# Altium schematic symbol library USBC_Power_Supply.SCHLIB: 68 symbols (part 2 of 2)
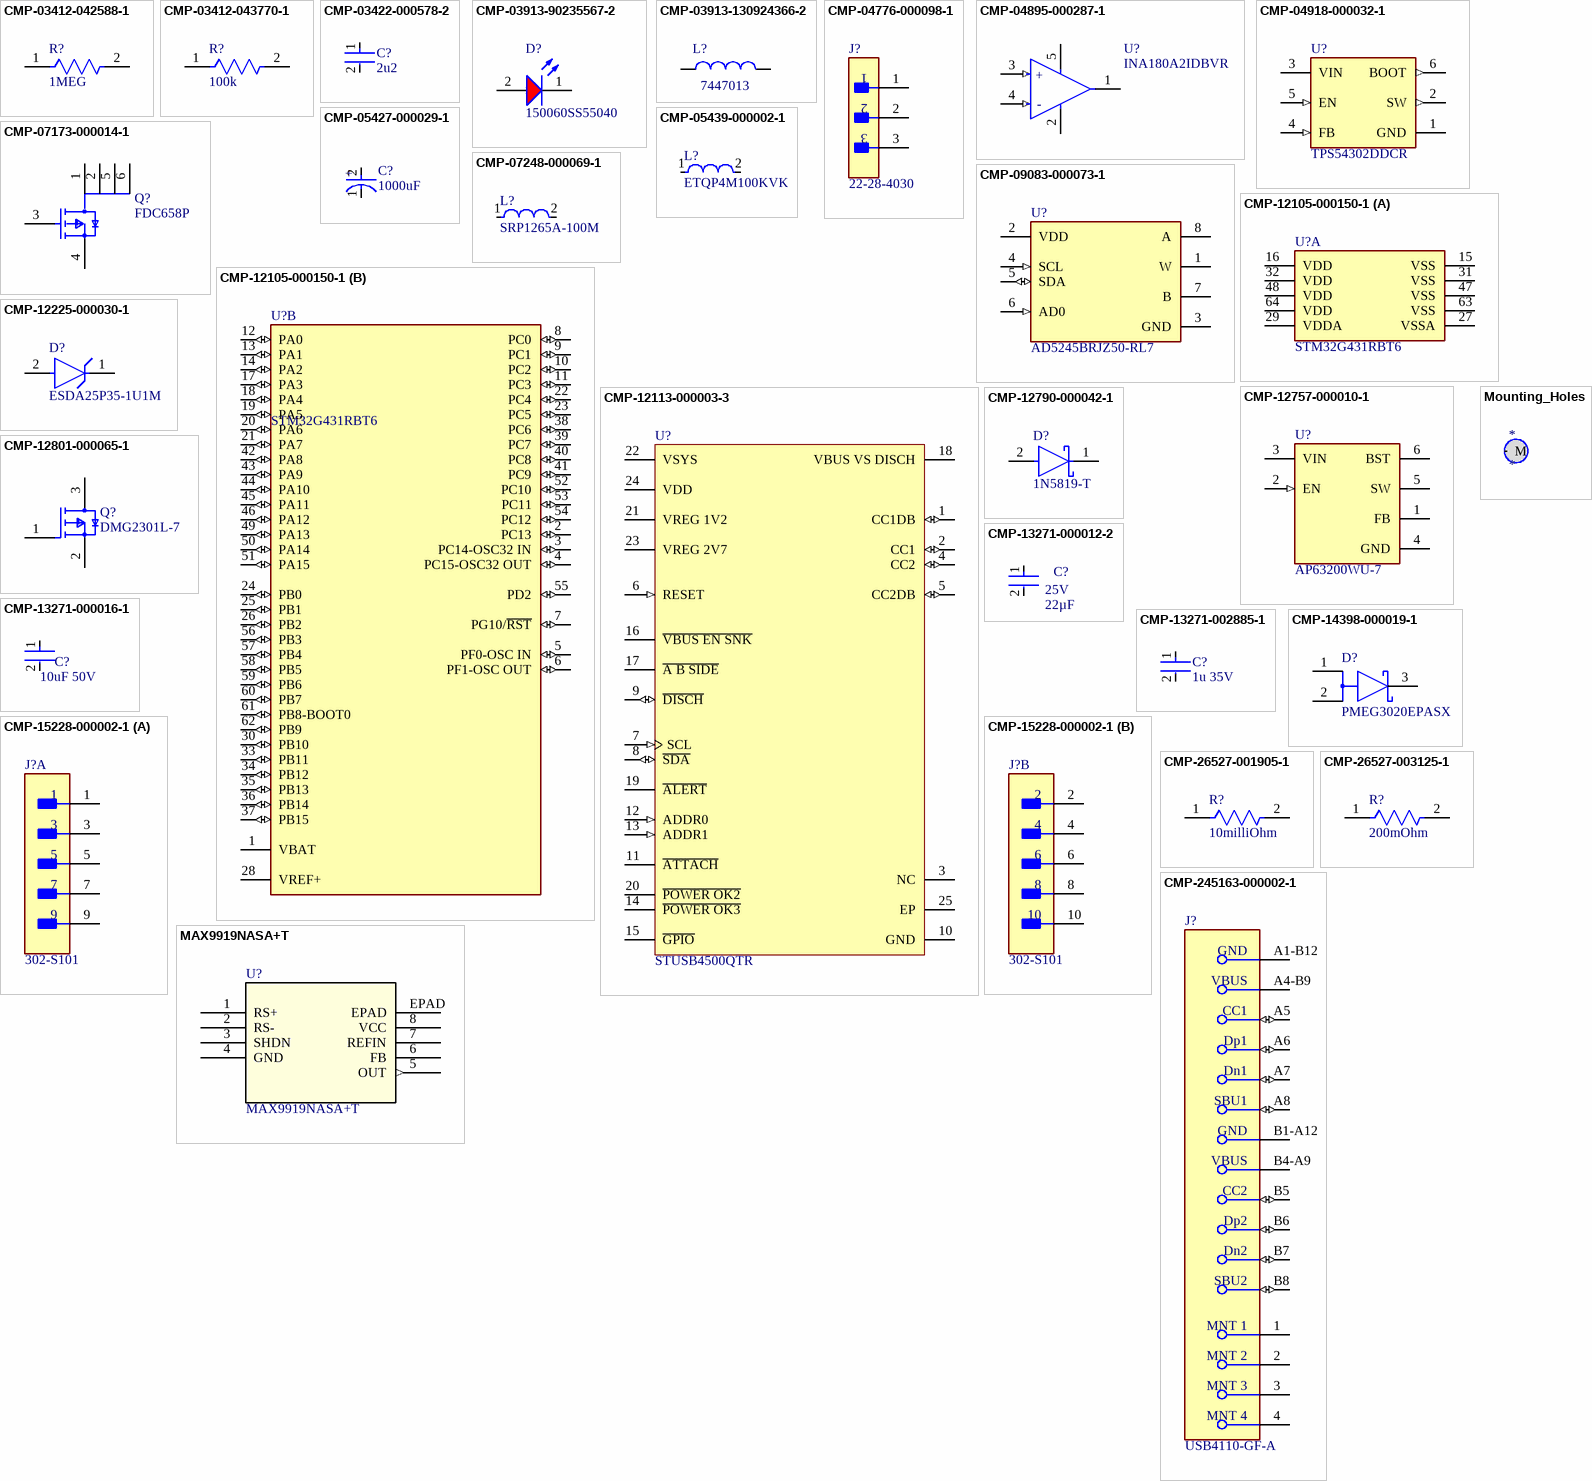
[diagram p2: symbols CMP-03412-042588-1 to Mounting_Holes]

## CMP-12790-000042-1
designator D?, comment 1N5819-T
DIODE SCHOTTKY 40V 1A DO41; Manufacturer: Diodes Inc.; Max Surge Forward Current: 25A; Capacitance: 110 pF; Max Junction Temp: +125°C; Peak Reverse Current: 1mA; Value: 110 pF; Temperature Range Low: -65°C; Footprint Url: https://www.diodes.com/assets/Package-Files/DO-41-Plastic.pdf; Digikey Description: DIODE SCHOTTKY 40V 1A DO41; Category: Diode; Mouser Description: Schottky Diodes & Rectifiers Vr/40V Io/1A T/R; Device Class L2: Diodes; Temperature Range High: +125°C; RoHS: TRUE; Device Class L3: Schottky Diodes; ComponentLink2Description: Datasheet; Temperature: -65°C to +125°C; Reverse Voltage: 40V; Height: 2.72mm; ComponentLink2URL: https://www.diodes.com/assets/Datasheets/ds23001.pdf; Forward Current: 1A; Manufacturer Part Number: 1N5819-T; Lead Free: Yes; Device Class L1: Discrete Semiconductors; Max Repetitive Reverse Voltage: 40V; Ipc Land Pattern Name: DIOPA1091W105L521D272; Automotive: No; Package: DO-41 (Plastic); Octopart: https://octopart.com/1n5819-t-diodes+inc.-55389586
footprint FP-DO-41_Plastic-MFG
pins: 1 C, 2 A

## CMP-12801-000065-1
designator Q?, comment DMG2301L-7
MOSFET P-CH 20V 3A SOT23; Manufacturer: Diodes Inc.; Number Of Channels: 1; Turn On Delay Time: 5ns; Drain To Source Resistance: 120mΩ; Max Junction Temp: +150°C; Gate To Source Voltage: 8V; Power Dissipation: 1.5W; Rthja Max: 83°C/W; Max Forward Diode Voltage: -1.2V; Standoff Height: 0.013mm; Threshold Vgs Min: -0.4V; Input Capacitace At Vds: 476pF @ -10V; Depletion Mode: False; Gate Charge At Vgs: 5.5nC @ -4.5V; Pulse Drain Current: -10A; Drain To Source Voltage: -20V; Continuous Drain Current: -3A; Turn Off Delay Time: 30ns; Lead Free: Yes; Package: SOT23; ComponentLink2Description: Datasheet; Device Class L3: MOSFETs; Device Class L1: Discrete Semiconductors; Manufacturer Part Number: DMG2301L-7; Automotive: No; Height: 1.1mm; Category: Trans; Temperature Range High: +150°C; Digikey Description: MOSFET P-CH 20V 3A SOT23; RoHS: TRUE; Number Of P Channels: 1; Footprint Url: https://www.diodes.com/assets/Package-Files/SOT23.pdf; Octopart: https://octopart.com/dmg2301l-7-diodes+inc.-67250456; ComponentLink2URL: https://www.diodes.com/assets/Datasheets/DMG2301L.pdf; Mouser Description: Single P-Channel 20 V 1.5 W 5.5 nC Silicon Surface Mount Mosfet - SOT-23; Drain To Source Breakdown Voltage: -20V; Threshold Vgs Max: -1.2V; Device Class L2: Transistors; Temperature: -55°C to +150°C; Temperature Range Low: -55°C
footprint FP-SOT23-MFG
footprint FP-SOT23-IPC_C
footprint FP-SOT23-IPC_B
footprint FP-SOT23-IPC_A
pins: 1 G, 2 S, 3 D

## CMP-13271-000012-2
designator C?, comment CL31A226KAHNNNE  (value not drawn)
Ceramic Capacitor, Multilayer, Ceramic, 25V, 10% +Tol, 10% -Tol, X5R, 15% TC, 22uF, Surface Mount, 1206; Manufacturer: Samsung Electro-Mechanics; Capacitance: 22µF; Material: Ceramic; RoHS: Compliant; Dielectric: X5R; HelpURL: https://product.samsungsem.com/mlcc/CL31A226KAHNNN.do; Max Operating Temperature: 85°C; Tolerance: 10%; Voltage Rating (DC): 25V; ComponentLink2Description: Datasheet URL; Voltage Rating: 25V; Min Operating Temperature: -55°C; ComponentLink2URL: https://product.samsungsem.com/mlcc/CL31A226KAHNNN.do; Case/Package: 1206; Height: 1.8mm; Manufacturer Part Number: CL31A226KAHNNNE
footprint CL31H-0_2_MFG (Recommended Land Pattern)
footprint CAPC320160X160_CL31H-0_2_L
footprint CAPC320160X160_CL31H-0_2_M
footprint CAPC320160X160_CL31H-0_2_N
pins: 1, 2

## CMP-13271-000016-1
designator C?, comment 10uF 50V
CAP CER 10UF 50V X5R 1206; Manufacturer: Samsung; Manufacturer Part Number: CL31A106KBHNNNE; Manufacturer: Samsung Electro-Mechanics; Tolerance: 10%; Material: Ceramic; Temperature Coefficient: 15%; RoHS: TRUE; Ipc Land Pattern Name: CAPC320160X160; Temperature Range Low: -55°C; Value: 10uF; Device Class L3: Ceramic Capacitors; Category: Cap; Temperature Characteristic: X5R; Lead Free: Yes; Device Class L2: Capacitors; Octopart: https://octopart.com/cl31a106kbhnnne-samsung-19832778; ComponentLink2Description: Datasheet; Digikey Description: CAP CER 10UF 50V X5R 1206; Voltage: 50V; ComponentLink2URL: http://www.samsungsem.com/kr/support/product-search/mlcc/__icsFiles/afieldfile/2018/06/21/CL31A106KBHNNNE.pdf; Capacitance: 10uF; Temperature Range High: +85°C; Device Class L1: Passive Components; Height: 1.8mm; Automotive: No; Voltage Rating: 50V; Package: CL31; Temperature: -55°C to +85°C
footprint FP-CL31-IPC_C
footprint FP-CL31-IPC_B
footprint FP-CL31-IPC_A
pins: 1, 2

## CMP-13271-002885-1
designator C?, comment 1u 35V
Cap Ceramic 1uF 35V X5R ±10% Pad SMD 0603 +85°C T/R; Manufacturer: Samsung Electro-Mechanics; Manufacturer Part Number: CL10A105KL8NNNC; Dielectric: X5R; Tolerance: 10%; Packaging: Tape and Reel; Contact Plating: Tin; Case/Package: 0603; Length: 0.063inch; Case Code (Metric): 1608; Voltage Rating (DC): 35V; Capacitance: 1uF; Package Quantity: 1; Thickness: 0.035inch; Voltage Rating: 35V; Width: 0.031inch; Min Operating Temperature: -55°C; Case Code (Imperial): 0603; Termination: Wraparound; Lead Free: Lead Free; Max Operating Temperature: 85°C; Mount: Surface Mount
footprint FP-CL10-IPC_C
footprint FP-CL10-IPC_A
footprint FP-CL10-IPC_B
pins: 1, 2

## CMP-14398-000019-1
designator D?, comment PMEG3020EPASX
DIODE SCHOTTKY 30V 2A SOT1061; Manufacturer: Nexperia; Manufacturer Part Number: PMEG3020EPASX
footprint FP-SOT1061D-MFG
pins: 1 A, 2 A, 3 C

## CMP-15228-000002-1
designator J?, comment 302-S101
CONN HEADER VERT 10POS 2.54MM; Manufacturer: On Shore Technology; Voltage Rating: 250V; Row Spacing: 0.1inch; Number of Positions: 10; Mount: Through Hole; Series: 302; Contact Type: Male Pin; Contact Plating: Gold; Contact Material: Brass; Number of Rows: 2; Color: Black; Contact Finish - Mating: GOLD; Packaging: Bulk; Pitch: 0.1inch; Fastening Type: Pull; Insulation Color: Black; Termination: Solder; Flammability Rating: UL94 V-0; Connector Type: Header; Max Operating Temperature: 105°C; Insulation Material: Glass; Contact Shape: Square; Min Operating Temperature: -40°C; Manufacturer Part Number: 302-S101
footprint FP-302-S101-MFG
part A pins: 1, 3, 5, 7, 9
part B pins: 2, 4, 6, 8, 10

## CMP-26527-001905-1
designator R?, comment 10milliOhm
RES 0.01 OHM 1% 1/4W 0603; Manufacturer: Stackpole Electronics; Manufacturer Part Number: CSRF0603FT10L0; Resistance: 10mR; Max Power Dissipation: 250mW; Temperature Coefficient: 75ppm/°C; Tolerance: 1%; Lead Free: Lead Free; Series: CSRF; Max Operating Temperature: 170°C; Number of Terminations: 2; Packaging: Tape and Reel; RoHS Compliant: Yes; Military Standard: Not; Resistor Type: Metal Foil; Length: 0.063inch; Width: 0.031inch; Case Code (Imperial): 0603; Case/Package: 0603; Depth: 0.8mm; Case Code (Metric): 1608; Features: Moisture Resistant; Min Operating Temperature: -55°C; Mount: Surface Mount; Construction: Rectangular; Height: 0.03inch
footprint FP-CSRF0603-high-IPC_A
footprint FP-CSRF0603-high-IPC_B
footprint FP-CSRF0603-high-IPC_C
footprint FP-CSRF0603-high-MFG
pins: 1, 2

## CMP-26527-003125-1
designator R?, comment 200mOhm
General Purpose Thick Film Chip Resistor, 0603, 0.2Ω, 1%, 300ppm/°C, 0.125W; Manufacturer: Stackpole Electronics; Manufacturer Part Number: CSR0603FKR200; Max Power Dissipation: 125mW; Resistance: 200mR; Resistor Type: Thick Film; Max Operating Temperature: 155°C; Radiation Hardening: No; Length: 0.063inch; Case Code (Metric): 1608; RoHS Compliant: Yes; Case Code (Imperial): 0603; Lead Free: Lead Free; Width: 0.031inch; Number of Terminations: 2; Series: CSR; Height: 0.022inch; Case/Package: 0603; Packaging: Tape and Reel; Mount: Surface Mount; Min Operating Temperature: -55°C; Temperature Coefficient: 300ppm/°C; Contact Plating: Tin; Tolerance: 1%
footprint FP-CSR0603-IPC_A
footprint FP-CSR0603-IPC_C
footprint FP-CSR0603-IPC_B
footprint FP-CSR0603-MFG
pins: 1, 2

## CMP-245163-000002-1
designator J?, comment USB4110-GF-A
CONN USB 2.0 TYPE-C R/A SMT; Manufacturer: GCT; Manufacturer: Global Connector Technology; Conn Orientation: Right Angle; Usb Standard: USB 2.0; Voltage Rating: 20V; Current Rating: 3/4.25/1.25/0.25A; Number Of Contacts: 16; Is Female: yes; Shielding: true; Standoff Height: 0.1mm; Octopart: https://octopart.com/usb4110-gf-a-gct-103941985; Temperature: -40°C to +85°C; RoHS: TRUE; Automotive: No; Contact Material: Gold,Nickel; Device Class L1: Connectors; Device Class L2: USB Connectors; Package: 0; Lead Free: Yes; ComponentLink2URL: https://gct.co/files/drawings/usb4110.pdf; Temperature Range High: +85°C; Temperature Range Low: -40°C; Height: 3.46mm; Manufacturer Part Number: USB4110-GF-A; ComponentLink2Description: Datasheet; Device Class L3: unset; Digikey Description: CONN USB 2.0 TYPE-C R/A SMT; Category: Conn
footprint FP-USB4110-GF-A-MFG
pins: 1 MNT 1, 2 MNT 2, 3 MNT 3, 4 MNT 4, A1-B12 GND, A4-B9 VBUS (power), A5 CC1 (io), A6 Dp1 (io), A7 Dn1 (io), A8 SBU1 (io), B1-A12 GND, B4-A9 VBUS (power), B5 CC2 (io), B6 Dp2 (io), B7 Dn2 (io), B8 SBU2 (io)

## MAX9919NASA+T
designator U?
-20V to +75V Input Range, Precision Uni-/Bidirectional, Current-Sense Amplifiers; Manufacturer_Name: Analog Devices / Maxim Integrated; Copyright: Copyright (C) 2026 Ultra Librarian. All rights reserved.; Manufacturer_Part_Number: MAX9919NASA+T; RefDes: RefDes; Type: Type
footprint 21-0111D_S8E-14_MXM
pins: 1 RS+, 2 RS-, 3 SHDN, 4 GND (power), 5 OUT (out), 6 FB, 7 REFIN, 8 VCC (power), EPAD

## Mounting_Holes
designator *
footprint Mountiing_Hole
pins: M